# Altium schematic symbol library U_ISO_LINEAR.SchLib: 1 symbol
Pins are listed as number, name and electrical type; pins without a type are passive.

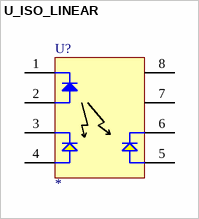
[diagram p0: symbol U_ISO_LINEAR]

## U_ISO_LINEAR
designator U?
pins: 1, 2, 3, 4, 5, 6, 7, 8